# EAGLE library part WS2803 (library ERIC)
18-Channel Constant Current LED Driver With Programmable PWM Outputs
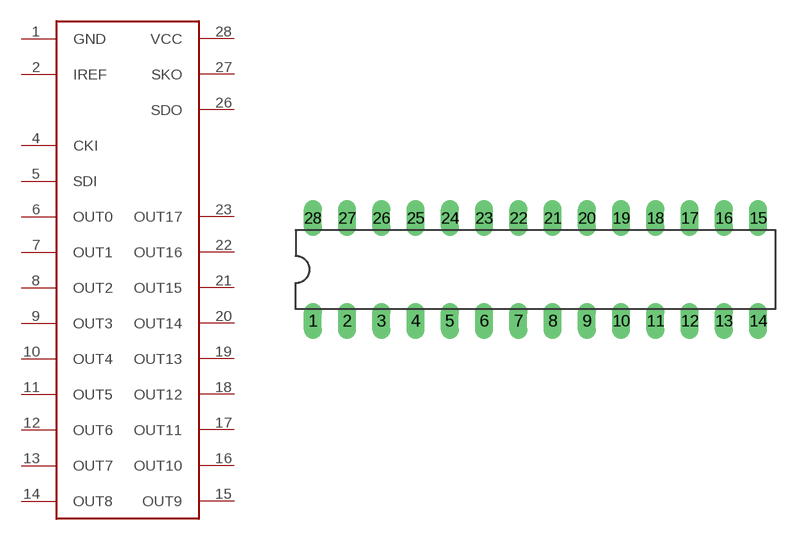
[diagram p7: symbol with the pads of DIP-28; footprint DIP-28]

Designator prefix -

## WS2803DIP-28  [DIP-28]
1  GND  pwr
2  IREF  in
4  CKI  in
5  SDI  in
6  OUT0
7  OUT1
8  OUT2
9  OUT3
10  OUT4
11  OUT5
12  OUT6
13  OUT7
14  OUT8
15  OUT9
16  OUT10
17  OUT11
18  OUT12
19  OUT13
20  OUT14
21  OUT15
22  OUT16
23  OUT17
26  SDO  out
27  SKO  out
28  VCC  out

## Footprint DIP-28 (pad centres in mm)
drill 0.813 long: 1 -16.51,-3.81; 2 -13.97,-3.81; 3 -11.43,-3.81; 4 -8.89,-3.81; 5 -6.35,-3.81; 6 -3.81,-3.81; 7 -1.27,-3.81; 8 1.27,-3.81; 9 3.81,-3.81; 10 6.35,-3.81; 11 8.89,-3.81; 12 11.43,-3.81; 13 13.97,-3.81; 14 16.51,-3.81; 15 16.51,3.81; 16 13.97,3.81; 17 11.43,3.81; 18 8.89,3.81; 19 6.35,3.81; 20 3.81,3.81; 21 1.27,3.81; 22 -1.27,3.81; 23 -3.81,3.81; 24 -6.35,3.81; 25 -8.89,3.81; 26 -11.43,3.81; 27 -13.97,3.81; 28 -16.51,3.81